# Altium footprint library crystals.PcbLib: 2 footprints
Each footprint in its own frame and in the unit in brackets; x right, y up, seen from the top. Pads: shape width x height; smd on the part's side, far side on the other; paste and mask are expansions set on the pad; w line width, h text height; cw(c..) or ccw(c..) is an arc to the next point about the centre after c.
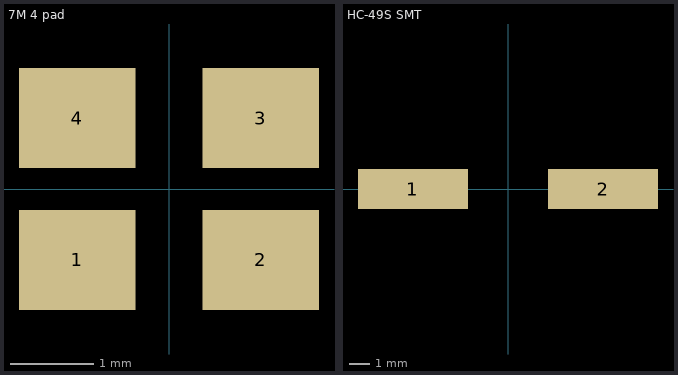
[diagram p0: the footprints below, top view; thin cyan lines are the x and y axes]

## 7M 4 pad [mm] "SMT footprint for 7M series 4 pin crystal"
pads (4):
  rect 1.4x1.2 smd: 1(-1.1,-0.85) 2(1.1,-0.85) 3(1.1,0.85) 4(-1.1,0.85)

## HC-49S SMT [mm] "footprint for 2 pin smt crystal"
pads (2):
  rect 5.5x2 smd: 1(-4.75,0) 2(4.75,0)